# EAGLE library part C8051F825 (library wheat)
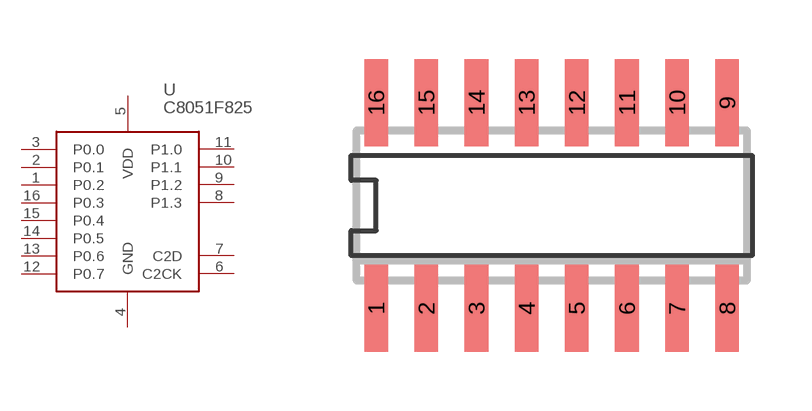
[diagram p146: symbol with the pads of SO16; footprint SO16]

Designator prefix U

## C8051F825-GS  [SO16]
1  P0.2
2  P0.1
3  P0.0
4  GND  pwr
5  VDD  pwr
6  C2CK
7  C2D
8  P1.3
9  P1.2
10  P1.1
11  P1.0
12  P0.7
13  P0.6
14  P0.5
15  P0.4
16  P0.3

## Footprint SO16 (pad centres in mm)
SO16, NARROW
smd 0.6 x 2.2: 1 -3.81,-2.6; 2 -2.54,-2.6; 3 -1.27,-2.6; 4 0,-2.6; 5 1.27,-2.6; 6 2.54,-2.6; 7 3.81,-2.6; 8 5.08,-2.6; 9 5.08,2.6; 10 3.81,2.6; 11 2.54,2.6; 12 1.27,2.6; 13 0,2.6; 14 -1.27,2.6; 15 -2.54,2.6; 16 -3.81,2.6